# Altium schematic symbol library Componentes_SOC.SchLib: 216 symbols (part 3 of 3)
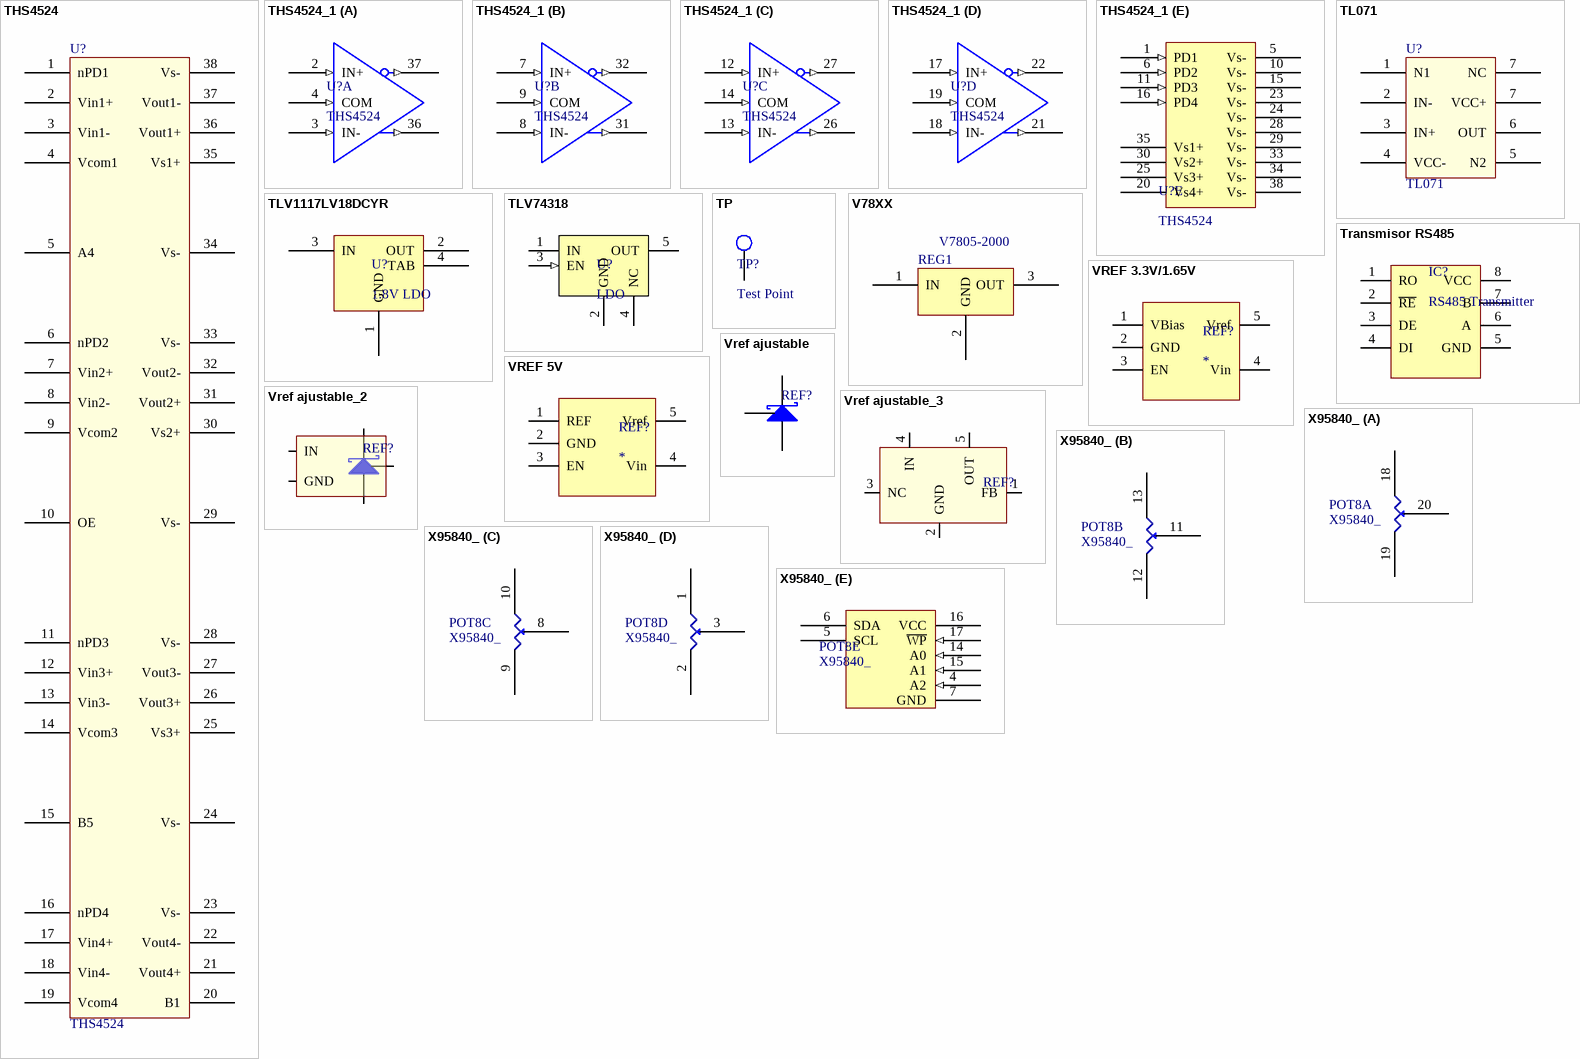
[diagram p12: symbols THS4524 to X95840_]

## Vref ajustable_3
designator REF?, comment LT6650  (value not drawn)
Referencia de tensión Ajustable min 0.4V; Manufacturer Part-Number: LT6650IS5#TRMPBF; Digikey Part-Number: LT6650IS5#TRMPBFCT-ND
simulation model BAS70 (DIODE)
footprint SOT-23-5 (SOT353, 5-Leads, Body 2x1.3mm, Pitch 0.65mm, Lead Span 2.1mm, IPC Medium Density)
pins: 1 FB, 2 GND, 3 NC, 4 IN, 5 OUT

## X95840_
designator POT8
Digital Trimmer; Manufacturer Part-Number: X95840WV20IZ-2.7; Digikey Part-Number: X95840WV20IZ-2.7-ND
footprint TSSO6X6-G20/D6.6 (Shrink Small Outline; 20 Leads; Body Width 4.4 mm; Pitch 0.65 mm)
part A pins: 18, 19, 20
part B pins: 11 RW1, 12 RL1, 13 RH1
part C pins: 8 RW2, 9 RL2, 10 RH2
part D pins: 1 RH3, 2 RL3, 3 RW3
part E pins: 4 A2 (in), 5 SCL, 6 SDA, 7 GND (power), 14 A0 (in), 15 A1 (in), 16 VCC (power), 17 ~{WP} (in)
1 alternate drawing of the same symbol